# EAGLE library part JOYSTICK (library alps)
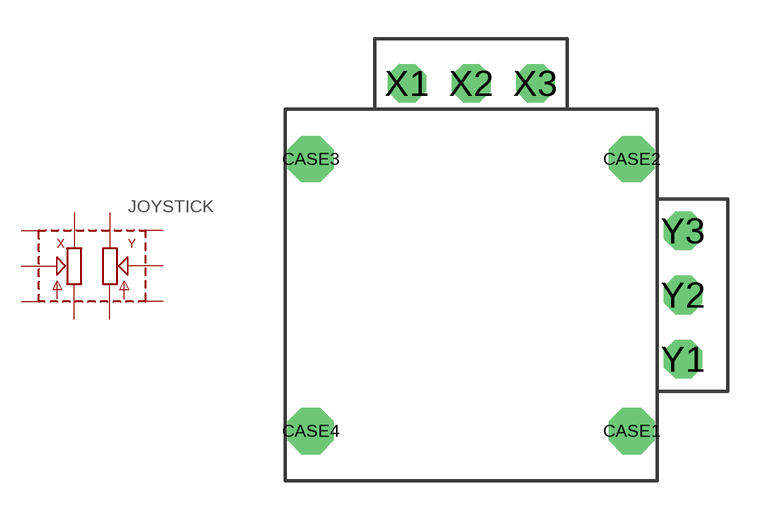
[diagram p0: symbol with the pads of JOYSTICK; footprint JOYSTICK]

Designator prefix JOYSTICK

## JOYSTICK  [JOYSTICK]
CASE1  CASE1  pas
CASE2  CASE2  pas
CASE3  CASE3  pas
CASE4  CASE4  pas
X1  X1  pas
X2  X2  pas
X3  X3  pas
Y1  Y1  pas
Y2  Y2  pas
Y3  Y3  pas

## Footprint JOYSTICK (pad centres in mm)
drill 1.2 octagon: CASE1 6.25,-5.3; CASE2 6.25,5.3; CASE3 -6.25,5.3; CASE4 -6.25,-5.3
drill 1 octagon: X1 -2.5,8.25; X2 0,8.25; X3 2.5,8.25; Y1 8.25,-2.5; Y2 8.25,0; Y3 8.25,2.5